# Altium schematic symbol library PDS1-S5-S3-S.SchLib: 1 symbol
Pins are listed as number, name and electrical type; pins without a type are passive.

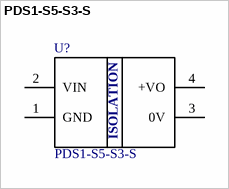
[diagram p0: symbol PDS1-S5-S3-S]

## PDS1-S5-S3-S
designator U?
PDS1 Series 1 W 3.3 VDC 303 mA Single Output DC-DC Isolated Converter; MF: CUI Inc.; CUI_purchase_URL: https://www.cui.com/product/power/dc-dc-converters/isolated/pds1-s-series?utm_source=snapeda.com&utm_medium=referral&utm_campaign=snapedaBOM; SnapEDA_Link: https://www.snapeda.com/parts/PDS1-S5-S3-S/CUI%20Inc./view-part/?ref=snap; Digi-Key_Purchase_URL: https://www.digikey.com/product-detail/en/cui-inc/PDS1-S5-S3-S/102-2756-ND/4009680?utm_source=snapeda&utm_medium=aggregator&utm_campaign=symbol; MP: PDS1-S5-S3-S; Package: SIP-4 CUI; Digi-Key_Part_Number: 102-2756-ND; Value: *
footprint *CONV_PDS1-S5-S3-S
pins: 1 GND (power), 2 VIN (power), 3 0V (power), 4 +VO (power)
text: ISOLATION